# Altium footprint library Motion Controller.PcbLib: 208 footprints (part 11 of 13)
Each footprint in its own frame and in the unit in brackets; x right, y up, seen from the top. Pads: shape width x height; smd on the part's side, far side on the other; paste and mask are expansions set on the pad; w line width, h text height; cw(c..) or ccw(c..) is an arc to the next point about the centre after c.
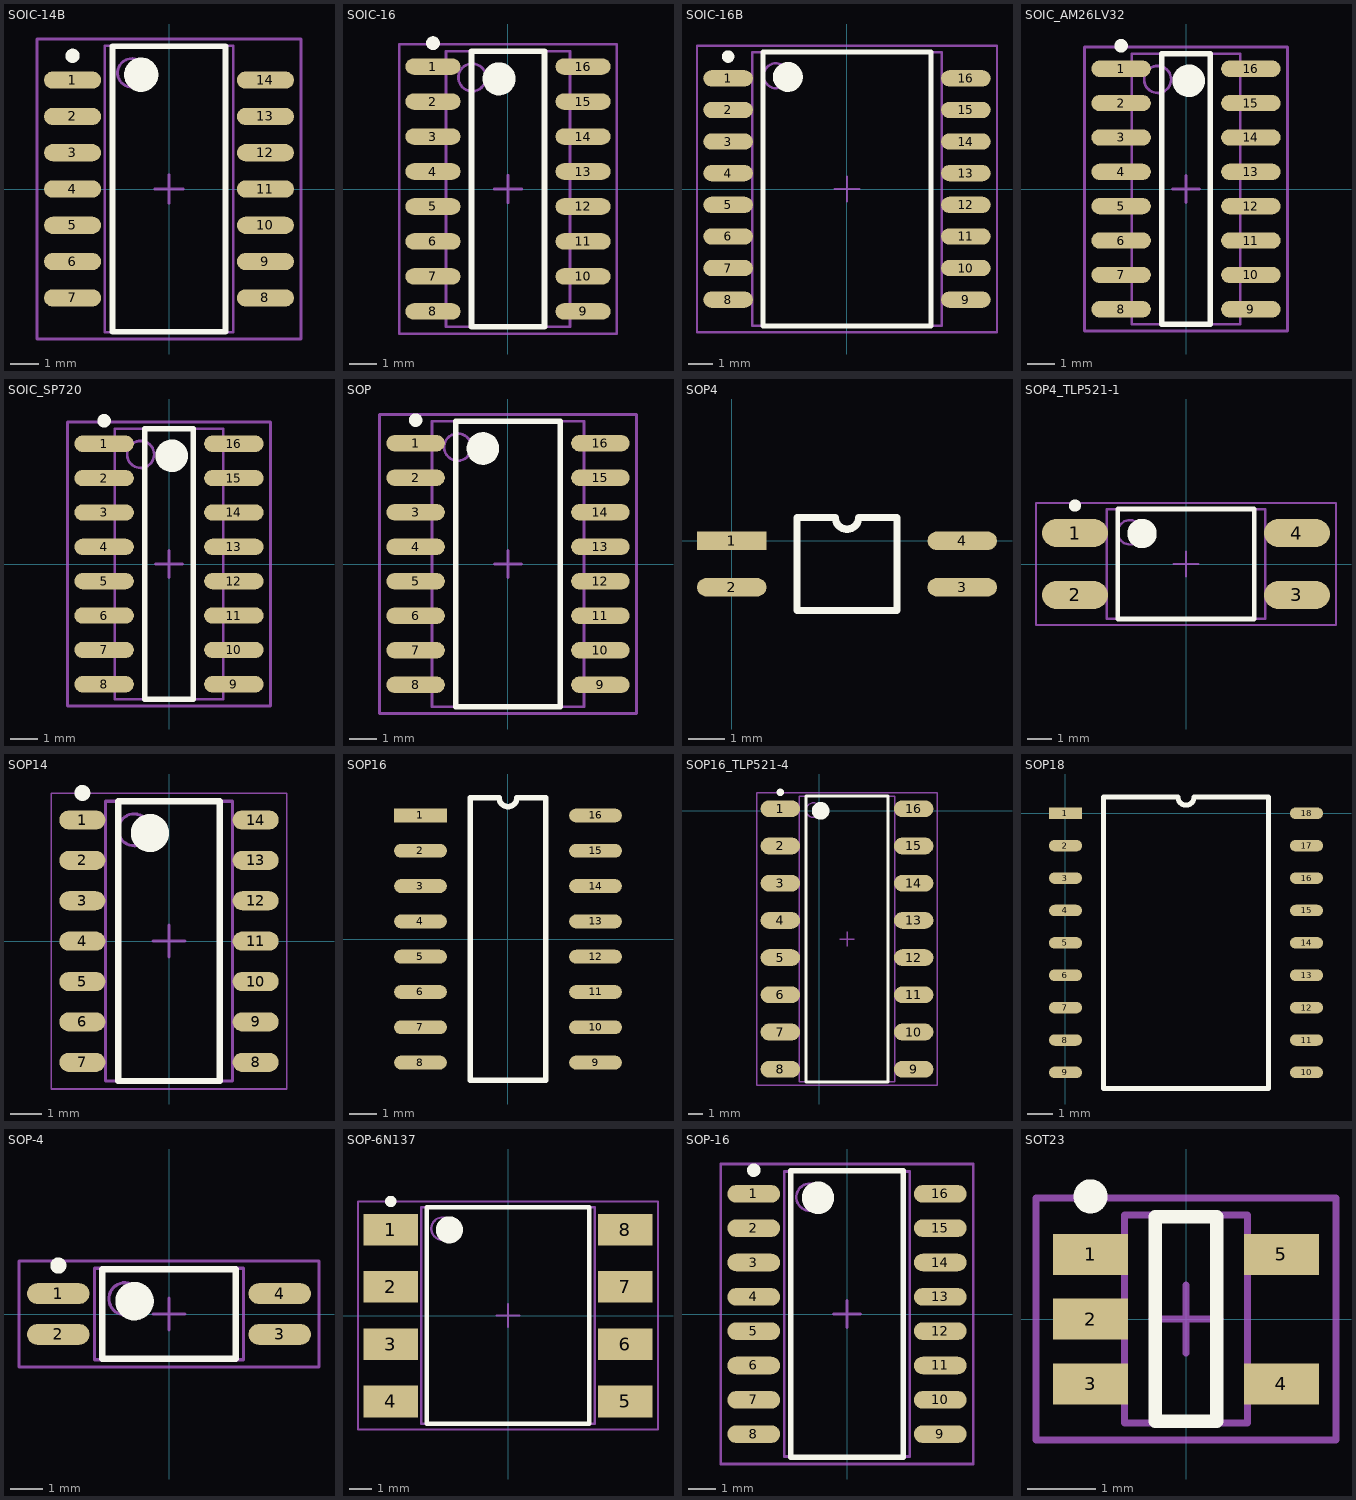
[diagram p10: the footprints below, top view; thin cyan lines are the x and y axes]

## SOIC-14B [mm]
pads (14):
  oval 2x0.6 smd: 1(-3.375,3.81) 2(-3.375,2.54) 3(-3.375,1.27) 4(-3.375,0) 5(-3.375,-1.27) 6(-3.375,-2.54) 7(-3.375,-3.81) 8(3.375,-3.81) 9(3.375,-2.54) 10(3.375,-1.27) 11(3.375,0) 12(3.375,1.27) 13(3.375,2.54) 14(3.375,3.81)
Top Overlay:
  circle w0.6: c-0.975,4 r0.3
  circle w0.25: c-3.375,4.66 r0.125
  lines w0.2: -1.975,-5 1.975,-5 1.975,5 -1.975,5 -1.975,-5
Mechanical 13:
  circle w0.1: c-1.3,4.065 r0.5
  lines w0.1: -2.25,-5.015 2.25,-5.015 2.25,5.015 -2.25,5.015 -2.25,-5.015
Mechanical 15:
  lines w0.1: -0.5,0 0.5,0 ; 0,-0.5 0,0.5 ; -4.625,-5.25 4.625,-5.25 4.625,5.25 -4.625,5.25 -4.625,-5.25
3D body: height 1.75, standoff 0.1, extent -2.25,-5.015 2.25,5.015

## SOIC-16 [mm]
height 1.75
pads (16):
  oval 2x0.6 smd: 1(-2.725,4.445) 2(-2.725,3.175) 3(-2.725,1.905) 4(-2.725,0.635) 5(-2.725,-0.635) 6(-2.725,-1.905) 7(-2.725,-3.175) 8(-2.725,-4.445) 9(2.725,-4.445) 10(2.725,-3.175) 11(2.725,-1.905) 12(2.725,-0.635) 13(2.725,0.635) 14(2.725,1.905) 15(2.725,3.175) 16(2.725,4.445)
Top Overlay:
  circle w0.6: c-0.325,4 r0.3
  circle w0.25: c-2.725,5.295 r0.125
  lines w0.2: -1.325,-5 1.325,-5 1.325,5 -1.325,5 -1.325,-5
Mechanical 13:
  circle w0.1: c-1.3,4.05 r0.5
  lines w0.1: -2.25,-5 2.25,-5 2.25,5 -2.25,5 -2.25,-5
Mechanical 15:
  lines w0.1: -0.5,0 0.5,0 ; 0,-0.5 0,0.5 ; -3.95,-5.25 3.95,-5.25 3.95,5.25 -3.95,5.25 -3.95,-5.25
3D body: height 1.75, standoff 0.2, extent -2.25,-5 2.25,5

## SOIC-16B [mm]
height 1.75
pads (16):
  oval 2x0.65 smd: 1(-4.775,4.445) 2(-4.775,3.175) 3(-4.775,1.905) 4(-4.775,0.635) 5(-4.775,-0.635) 6(-4.775,-1.905) 7(-4.775,-3.175) 8(-4.775,-4.445) 9(4.775,-4.445) 10(4.775,-3.175) 11(4.775,-1.905) 12(4.775,-0.635) 13(4.775,0.635) 14(4.775,1.905) 15(4.775,3.175) 16(4.775,4.445)
Top Overlay:
  circle w0.25: c-4.775,5.32 r0.125
  circle w0.6: c-2.375,4.5 r0.3
  lines w0.2: -3.375,-5.5 -3.375,5.5 3.375,5.5 3.375,-5.5 -3.375,-5.5
Mechanical 13:
  circle w0.1: c-2.85,4.55 r0.5
  lines w0.1: -3.8,-5.5 -3.8,5.5 3.8,5.5 3.8,-5.5 -3.8,-5.5
Mechanical 15:
  lines w0.1: -0.5,0 0.5,0 ; 0,-0.5 0,0.5 ; -6.025,-5.75 -6.025,5.75 6.025,5.75 6.025,-5.75 -6.025,-5.75
3D body: height 1.75, standoff 0.3, extent -3.8,-5.5 3.8,5.5

## SOIC_AM26LV32 [mm] "SOIC, 16-Leads, Body 10.0x4.0mm (max), Pitch 1.27mm, IPC Medium Density"
height 1.75
pads (16):
  oval 2.2x0.6 smd: 1(-2.4,4.445) 2(-2.4,3.175) 3(-2.4,1.905) 4(-2.4,0.635) 5(-2.4,-0.635) 6(-2.4,-1.905) 7(-2.4,-3.175) 8(-2.4,-4.445) 9(2.4,-4.445) 10(2.4,-3.175) 11(2.4,-1.905) 12(2.4,-0.635) 13(2.4,0.635) 14(2.4,1.905) 15(2.4,3.175) 16(2.4,4.445)
Top Overlay:
  circle w0.6: c0.1,4 r0.3
  circle w0.25: c-2.4,5.295 r0.125
  lines w0.2: -0.9,-5 0.9,-5 0.9,5 -0.9,5 -0.9,-5
Mechanical 13:
  circle w0.1: c-1.05,4.05 r0.5
  lines w0.1: -2,-5 2,-5 2,5 -2,5 -2,-5
Mechanical 15:
  lines w0.1: -0.5,0 0.5,0 ; 0,-0.5 0,0.5 ; -3.75,-5.25 3.75,-5.25 3.75,5.25 -3.75,5.25 -3.75,-5.25
3D body: height 1.75, standoff 0.25, extent -2,-5 2,5

## SOIC_SP720 [mm]
height 1.75
pads (16):
  oval 2.2x0.6 smd: 1(-2.4,4.445) 2(-2.4,3.175) 3(-2.4,1.905) 4(-2.4,0.635) 5(-2.4,-0.635) 6(-2.4,-1.905) 7(-2.4,-3.175) 8(-2.4,-4.445) 9(2.4,-4.445) 10(2.4,-3.175) 11(2.4,-1.905) 12(2.4,-0.635) 13(2.4,0.635) 14(2.4,1.905) 15(2.4,3.175) 16(2.4,4.445)
Top Overlay:
  circle w0.25: c-2.4,5.295 r0.125
  circle w0.6: c0.1,4 r0.3
  lines w0.2: -0.9,-5 -0.9,5 0.9,5 0.9,-5 -0.9,-5
Mechanical 13:
  circle w0.1: c-1.05,4.05 r0.5
  lines w0.1: -2,-5 -2,5 2,5 2,-5 -2,-5
Mechanical 15:
  lines w0.1: -0.5,0 0.5,0 ; 0,-0.5 0,0.5 ; -3.75,-5.25 -3.75,5.25 3.75,5.25 3.75,-5.25 -3.75,-5.25
3D body: height 1.75, standoff 0.25, extent -2,-5 2,5

## SOP [mm] "SOP, 16-Leads, Body 10.5x5.6mm (max), Pitch 1.27mm, IPC Medium Density"
height 2
pads (16):
  oval 2.15x0.6 smd: 1(-3.4,4.445) 2(-3.4,3.175) 3(-3.4,1.905) 4(-3.4,0.635) 5(-3.4,-0.635) 6(-3.4,-1.905) 7(-3.4,-3.175) 8(-3.4,-4.445) 9(3.4,-4.445) 10(3.4,-3.175) 11(3.4,-1.905) 12(3.4,-0.635) 13(3.4,0.635) 14(3.4,1.905) 15(3.4,3.175) 16(3.4,4.445)
Top Overlay:
  circle w0.6: c-0.925,4.25 r0.3
  circle w0.25: c-3.4,5.295 r0.125
  lines w0.2: -1.925,-5.25 1.925,-5.25 1.925,5.25 -1.925,5.25 -1.925,-5.25
Mechanical 13:
  circle w0.1: c-1.85,4.3 r0.5
  lines w0.1: -2.8,-5.25 2.8,-5.25 2.8,5.25 -2.8,5.25 -2.8,-5.25
Mechanical 15:
  lines w0.1: -0.5,0 0.5,0 ; 0,-0.5 0,0.5 ; -4.725,-5.5 4.725,-5.5 4.725,5.5 -4.725,5.5 -4.725,-5.5
3D body: height 2, standoff 0.1, extent -2.8,-5.25 2.8,5.25

## SOP4 [mm]
pads (4):
  rect 1.9x0.5 smd: 1(0,0)
  oval 1.9x0.5 smd: 2(0,-1.27) 3(6.3,-1.27) 4(6.3,0)
Top Overlay:
  lines w0.2: 1.785,-1.905 4.515,-1.905 4.515,0.635 3.467,0.635 cw(c3.15,0.635) 2.832,0.635 1.785,0.635 1.785,-1.905

## SOP4_TLP521-1 [mm]
height 4
pads (4):
  oval 2.7x1.15 smd: 1(-4.55,1.27) 2(-4.55,-1.27) 3(4.55,-1.27) 4(4.55,1.27)
Top Overlay:
  circle w0.25: c-4.55,2.395 r0.125
  circle w0.6: c-1.8,1.25 r0.3
  lines w0.2: -2.8,-2.25 -2.8,2.25 2.8,2.25 2.8,-2.25 -2.8,-2.25
Mechanical 13:
  circle w0.1: c-2.3,1.3 r0.5
  lines w0.1: -3.25,-2.25 -3.25,2.25 3.25,2.25 3.25,-2.25 -3.25,-2.25
Mechanical 15:
  lines w0.1: -0.5,0 0.5,0 ; 0,-0.5 0,0.5 ; -6.15,-2.5 -6.15,2.5 6.15,2.5 6.15,-2.5 -6.15,-2.5
3D body: height 4, standoff 0.5, extent -3.25,-2.25 3.25,2.25

## SOP14 [mm]
height 1.75
pads (14):
  oval 1.45x0.6 smd: 1(-2.725,3.81) 2(-2.725,2.54) 3(-2.725,1.27) 4(-2.725,0) 5(-2.725,-1.27) 6(-2.725,-2.54) 7(-2.725,-3.81) 8(2.725,-3.81) 9(2.725,-2.54) 10(2.725,-1.27) 11(2.725,0) 12(2.725,1.27) 13(2.725,2.54) 14(2.725,3.81)
Top Overlay:
  circle w0.25: c-2.725,4.66 r0.125
  circle w0.6: c-0.6,3.4 r0.3
  lines w0.2: -1.6,-4.4 -1.6,4.4 1.6,4.4 1.6,-4.4 -1.6,-4.4
Mechanical 13:
  circle w0.1: c-1.1,3.5 r0.5
  lines w0.1: -2,-4.4 -2,4.4 2,4.4 2,-4.4 -2,-4.4
Mechanical 15:
  lines w0.05: -3.7,-4.65 -3.7,4.65 3.7,4.65 3.7,-4.65 -3.7,-4.65
  lines w0.1: -0.5,0 0.5,0 ; 0,-0.5 0,0.5
3D body: height 1.75, standoff 0.2, extent -2,-4.4 2,4.4

## SOP16 [mm]
pads (16):
  rect 1.9x0.5 smd: 1(-3.15,4.445)
  oval 1.9x0.5 smd: 2(-3.15,3.175) 3(-3.15,1.905) 4(-3.15,0.635) 5(-3.15,-0.635) 6(-3.15,-1.905) 7(-3.15,-3.175) 8(-3.15,-4.445) 9(3.15,-4.445) 10(3.15,-3.175) 11(3.15,-1.905) 12(3.15,-0.635) 13(3.15,0.635) 14(3.15,1.905) 15(3.15,3.175) 16(3.15,4.445)
Top Overlay:
  lines w0.2: -1.365,-5.08 -1.365,5.08 -0.318,5.08 ccw(c0,5.08) 0.318,5.08 1.365,5.08 1.365,-5.08 -1.365,-5.08

## SOP16_TLP521-4 [mm]
pads (16):
  oval 2.7x1.15 smd: 1(-2.645,0.127) 2(-2.645,-2.413) 3(-2.645,-4.953) 4(-2.645,-7.493) 5(-2.645,-10.033) 6(-2.645,-12.573) 7(-2.645,-15.113) 8(-2.645,-17.653) 9(6.455,-17.653) 10(6.455,-15.113) 11(6.455,-12.573) 12(6.455,-10.033) 13(6.455,-7.493) 14(6.455,-4.953) 15(6.455,-2.413) 16(6.455,0.127)
Top Overlay:
  circle w0.6: c0.105,-0.013 r0.3
  circle w0.25: c-2.645,1.252 r0.125
  lines w0.2: -0.895,-18.513 4.705,-18.513 4.705,0.987 -0.895,0.987 -0.895,-18.513
Mechanical 13:
  circle w0.1: c-0.395,0.037 r0.5
  lines w0.1: -1.345,-18.513 5.155,-18.513 5.155,0.987 -1.345,0.987 -1.345,-18.513
Mechanical 15:
  lines w0.1: 1.405,-8.763 2.405,-8.763 ; 1.905,-9.263 1.905,-8.263 ; -4.245,-18.763 8.055,-18.763 8.055,1.237 -4.245,1.237 -4.245,-18.763
3D body: height 4, standoff 0.5, extent -1.345,-18.513 5.155,0.987

## SOP18 [mm]
pads (18):
  rect 1.3x0.45 smd: 1(0,0)
  oval 1.3x0.45 smd: 2(0,-1.27) 3(0,-2.54) 4(0,-3.81) 5(0,-5.08) 6(0,-6.35) 7(0,-7.62) 8(0,-8.89) 9(0,-10.16) 10(9.45,-10.16) 11(9.45,-8.89) 12(9.45,-7.62) 13(9.45,-6.35) 14(9.45,-5.08) 15(9.45,-3.81) 16(9.45,-2.54) 17(9.45,-1.27) 18(9.45,0)
Top Overlay:
  lines w0.2: 1.485,-10.795 7.965,-10.795 7.965,0.635 5.042,0.635 cw(c4.725,0.635) 4.407,0.635 1.485,0.635 1.485,-10.795

## SOP-4 [mm]
height 1.75
pads (4):
  oval 1.95x0.65 smd: 1(-3.45,0.635) 2(-3.45,-0.635) 3(3.45,-0.635) 4(3.45,0.635)
Top Overlay:
  circle w0.6: c-1.075,0.4 r0.3
  circle w0.25: c-3.45,1.51 r0.125
  lines w0.2: -2.075,-1.4 2.075,-1.4 2.075,1.4 -2.075,1.4 -2.075,-1.4
Mechanical 13:
  circle w0.1: c-1.375,0.475 r0.5
  lines w0.1: -2.325,-1.425 2.325,-1.425 2.325,1.425 -2.325,1.425 -2.325,-1.425
Mechanical 15:
  lines w0.1: -0.5,0 0.5,0 ; 0,-0.5 0,0.5 ; -4.675,-1.65 4.675,-1.65 4.675,1.65 -4.675,1.65 -4.675,-1.65
3D body: height 1.75, standoff 0.1, extent -2.325,-1.425 2.325,1.425

## SOP-6N137 [mm]
height 4
pads (8):
  rect 2.4x1.4 smd: 1(-5.2,3.81) 2(-5.2,1.27) 3(-5.2,-1.27) 4(-5.2,-3.81) 5(5.2,-3.81) 6(5.2,-1.27) 7(5.2,1.27) 8(5.2,3.81)
Top Overlay:
  circle w0.25: c-5.2,5.06 r0.125
  circle w0.6: c-2.6,3.8 r0.3
  lines w0.2: -3.6,-4.8 -3.6,4.8 3.6,4.8 3.6,-4.8 -3.6,-4.8
Mechanical 13:
  circle w0.1: c-2.9,3.85 r0.5
  lines w0.1: -3.85,-4.8 -3.85,4.8 3.85,4.8 3.85,-4.8 -3.85,-4.8
Mechanical 15:
  lines w0.1: -0.5,0 0.5,0 ; 0,-0.5 0,0.5 ; -6.65,-5.05 -6.65,5.05 6.65,5.05 6.65,-5.05 -6.65,-5.05
3D body: height 4, standoff 0.5, extent -3.85,-4.8 3.85,4.8

## SOP-16 [mm]
height 1.75
pads (16):
  oval 1.95x0.65 smd: 1(-3.45,4.445) 2(-3.45,3.175) 3(-3.45,1.905) 4(-3.45,0.635) 5(-3.45,-0.635) 6(-3.45,-1.905) 7(-3.45,-3.175) 8(-3.45,-4.445) 9(3.45,-4.445) 10(3.45,-3.175) 11(3.45,-1.905) 12(3.45,-0.635) 13(3.45,0.635) 14(3.45,1.905) 15(3.45,3.175) 16(3.45,4.445)
Top Overlay:
  circle w0.25: c-3.45,5.32 r0.125
  circle w0.6: c-1.075,4.3 r0.3
  lines w0.2: -2.075,-5.3 -2.075,5.3 2.075,5.3 2.075,-5.3 -2.075,-5.3
Mechanical 13:
  circle w0.1: c-1.375,4.325 r0.5
  lines w0.1: -2.325,-5.275 -2.325,5.275 2.325,5.275 2.325,-5.275 -2.325,-5.275
Mechanical 15:
  lines w0.1: -0.5,0 0.5,0 ; 0,-0.5 0,0.5 ; -4.675,-5.55 -4.675,5.55 4.675,5.55 4.675,-5.55 -4.675,-5.55
3D body: height 1.75, standoff 0.1, extent -2.325,-5.275 2.325,5.275

## SOT23 [mm]
height 1.1
pads (5):
  rect 1.1x0.6 smd: 1(-1.4,0.95) 2(-1.4,0) 3(-1.4,-0.95) 4(1.4,-0.95) 5(1.4,0.95)
Top Overlay:
  circle w0.25: c-1.4,1.8 r0.125
  lines w0.2: -0.45,-1.5 0.45,-1.5 0.45,1.5 -0.45,1.5 -0.45,-1.5
Mechanical 13:
  lines w0.1: -0.9,-1.525 -0.9,1.525 0.9,1.525 0.9,-1.525 -0.9,-1.525
Mechanical 15:
  lines w0.1: -0.5,0 0.5,0 ; 0,-0.5 0,0.5 ; -2.2,-1.775 -2.2,1.775 2.2,1.775 2.2,-1.775 -2.2,-1.775
3D body: height 1.1, standoff 0.05, extent -0.9,-1.525 0.9,1.525